# Altium schematic symbol library Fiducial_lib.SchLib: 1 symbol
Pins are listed as number, name and electrical type; pins without a type are passive.

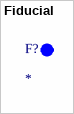
[diagram p0: symbol Fiducial]

## Fiducial
designator F?
footprint Fiducial_Footprint